# Altium schematic symbol library CON1X8.Schlib: 1 symbol
Pins are listed as number, name and electrical type; pins without a type are passive.

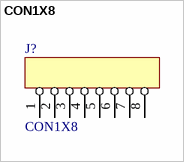
[diagram p0: symbol CON1X8]

## CON1X8
designator J?
pins: 1 VCC, 2 VCC, 3 VCC, 4 VCC, 5, 6, 7, 8
3 alternate drawings of the same symbol